# Altium footprint library HEADER-2x8.PcbLib: 1 footprints
Each footprint in its own frame and in the unit in brackets; x right, y up, seen from the top. Pads: shape width x height; smd on the part's side, far side on the other; paste and mask are expansions set on the pad; w line width, h text height; cw(c..) or ccw(c..) is an arc to the next point about the centre after c.
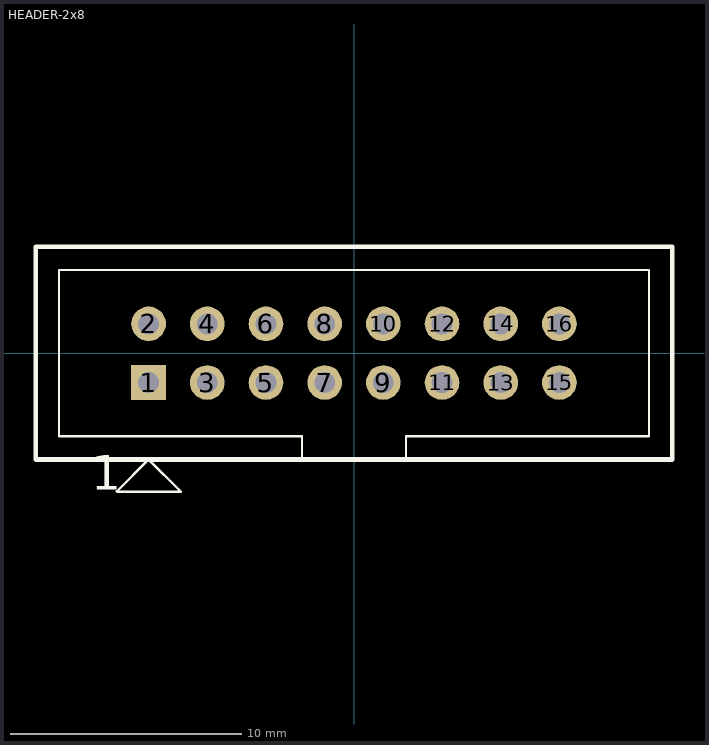
[diagram p0: the footprint, top view; thin cyan lines are the x and y axes]

## HEADER-2x8 [mm] "Header 2.54mm pitch, 2x8 Positions"
height 9.3
pads (16):
  rect 1.5x1.5 hole 0.9: 1(-8.89,-1.27)
  round 1.5 hole 0.9: 2(-8.89,1.27) 3(-6.35,-1.27) 4(-6.35,1.27) 5(-3.81,-1.27) 6(-3.81,1.27) 7(-1.27,-1.27) 8(-1.27,1.27) 9(1.27,-1.27) 10(1.27,1.27) 11(3.81,-1.27) 12(3.81,1.27) 13(6.35,-1.27) 14(6.35,1.27) 15(8.89,-1.27) 16(8.89,1.27)
Top Overlay:
  lines w0.102: -10.27,-5.98 -8.89,-4.6 -7.49,-6 -10.25,-6 ; -2.77,-4.6 3.48,-4.6 ; -2.25,-4.6 -2.25,-3.6 -12.77,-3.6 -12.77,3.6 12.77,3.6 12.77,-3.6 2.25,-3.6 2.25,-4.6
  lines w0.2: -13.77,-4.6 13.77,-4.6 13.77,4.6 -13.77,4.6 -13.77,-4.6
  text "1" at -11.37,-6.4 h2.54
3D body: height 3.2, standoff 0, extent -12.769,-4.599 12.77,3.599
3D body: height 9.2, standoff 0, extent -13.769,-4.599 13.77,4.599